# EAGLE library part ECS-RTC-3225-5699C3 (library crystal)
Low Power Consumption I2C RTC
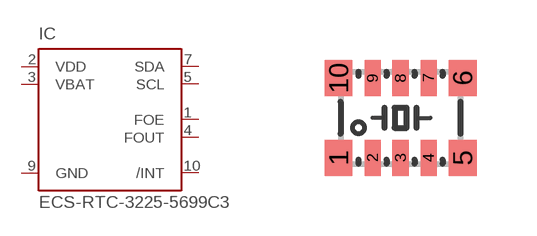
[diagram p0: symbol with the pads of QFN10DL; footprint QFN10DL]

Designator prefix IC

## ECS-RTC-3225-5699C3  [QFN10DL]
1  FOE  in
2  VDD  pwr
3  VBAT  pwr
4  FOUT  out
5  SCL  in
7  SDA
9  GND  pwr
10  /INT  oc

## Footprint QFN10DL (pad centres in mm)
smd 0.7 x 0.9: 1 -1.55,-1; 5 1.55,-1; 6 1.55,1; 10 -1.55,1
smd 0.4 x 0.9: 2 -0.7,-1; 3 0,-1; 4 0.7,-1; 7 0.7,1; 8 0,1; 9 -0.7,1